# Altium footprint library RS232_Level_Shifter.PcbLib: 1 footprints
Each footprint in its own frame and in the unit in brackets; x right, y up, seen from the top. Pads: shape width x height; smd on the part's side, far side on the other; paste and mask are expansions set on the pad; w line width, h text height; cw(c..) or ccw(c..) is an arc to the next point about the centre after c.
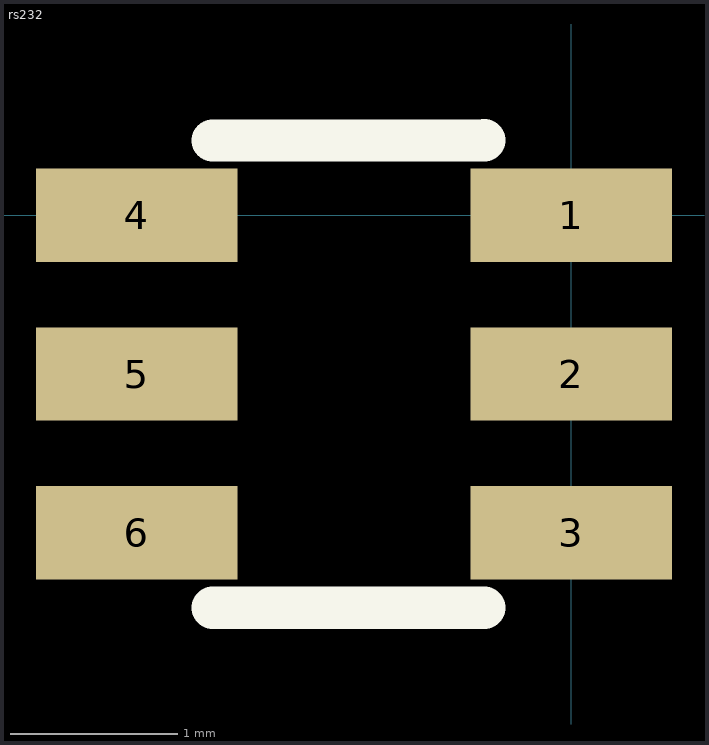
[diagram p0: the footprint, top view; thin cyan lines are the x and y axes]

## rs232 [mil]
pads (6):
  rect 47.5x22 smd: 1(0,0) 2(0,-37.4) 3(0,-74.8) 4(-102.36,0) 5(-102.36,-37.4) 6(-102.36,-74.8)
Top Overlay:
  lines w10: -84.49,-92.4 -20.49,-92.4 ; -84.49,17.59 -20.49,17.6